# Altium footprint library TPS852.PcbLib: 1 footprints
Each footprint in its own frame and in the unit in brackets; x right, y up, seen from the top. Pads: shape width x height; smd on the part's side, far side on the other; paste and mask are expansions set on the pad; w line width, h text height; cw(c..) or ccw(c..) is an arc to the next point about the centre after c.
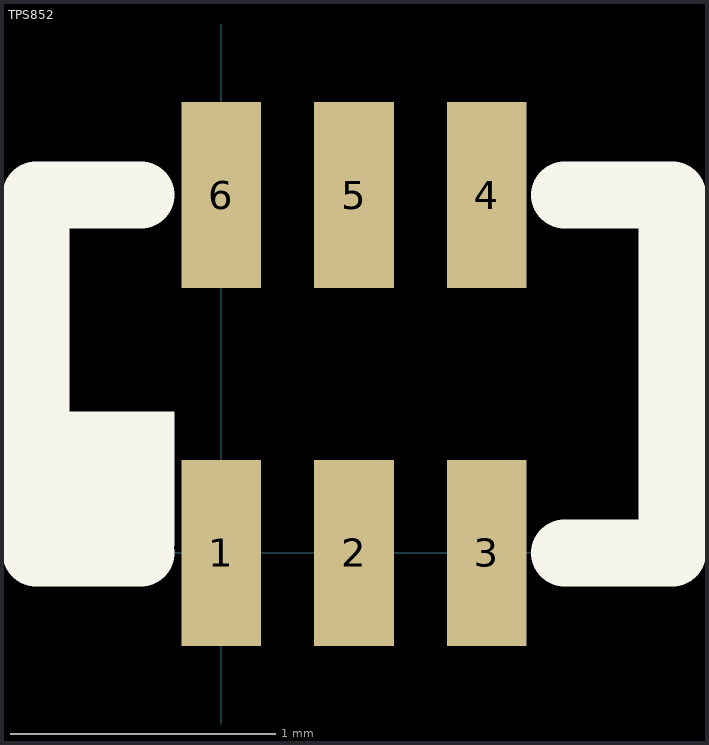
[diagram p0: the footprint, top view; thin cyan lines are the x and y axes]

## TPS852 [mm] "Photodiode"
height 0.55
pads (7):
  rect 0.3x0.7 smd: 1(0,0) 2(0.5,0) 3(1,0) 4(1,1.35) 5(0.5,1.35) 6(0,1.35)
  rect 0.508x0.508 on Top Overlay: ""(-0.432,0.279)
TopOverlay:
  lines w0.254: -0.305,0 -0.7,0 -0.7,1.35 -0.305,1.35 ; 1.295,0 1.7,0 1.7,1.35 1.295,1.35